# Altium schematic symbol library STLINK-V3MOS.SchLib: 1 symbol
Pins are listed as number, name and electrical type; pins without a type are passive.

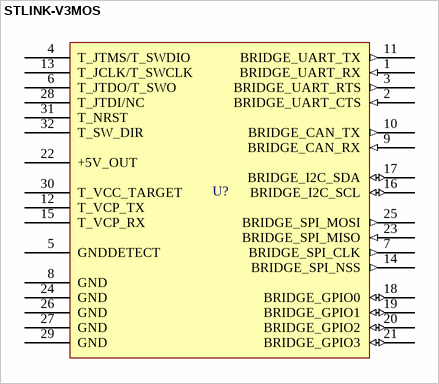
[diagram p0: symbol STLINK-V3MOS]

## STLINK-V3MOS
designator U?
debugger/programmer tiny probes for STM32 microcontrollers
pins: 1 BRIDGE_UART_RX (in), 2 BRIDGE_UART_CTS (in), 3 BRIDGE_UART_RTS (out), 4 T_JTMS/T_SWDIO, 5 GNDDETECT, 6 T_JTDO/T_SWO, 7 BRIDGE_SPI_CLK (out), 8 GND (power), 9 BRIDGE_CAN_RX (in), 10 BRIDGE_CAN_TX (out), 11 BRIDGE_UART_TX (out), 12 T_VCP_TX, 13 T_JCLK/T_SWCLK, 14 BRIDGE_SPI_NSS (out), 15 T_VCP_RX, 16 BRIDGE_I2C_SCL (io), 17 BRIDGE_I2C_SDA (io), 18 BRIDGE_GPIO0 (io), 19 BRIDGE_GPIO1 (io), 20 BRIDGE_GPIO2 (io), 21 BRIDGE_GPIO3 (io), 22 +5V_OUT (power), 23 BRIDGE_SPI_MISO (in), 24 GND (power), 25 BRIDGE_SPI_MOSI (out), 26 GND (power), 27 GND (power), 28 T_JTDI/NC, 29 GND (power), 30 T_VCC_TARGET, 31 T_NRST, 32 T_SW_DIR